# Altium footprint library WE-PMCI.PcbLib: 8 footprints
Each footprint in its own frame and in the unit in brackets; x right, y up, seen from the top. Pads: shape width x height; smd on the part's side, far side on the other; paste and mask are expansions set on the pad; w line width, h text height; cw(c..) or ccw(c..) is an arc to the next point about the centre after c.
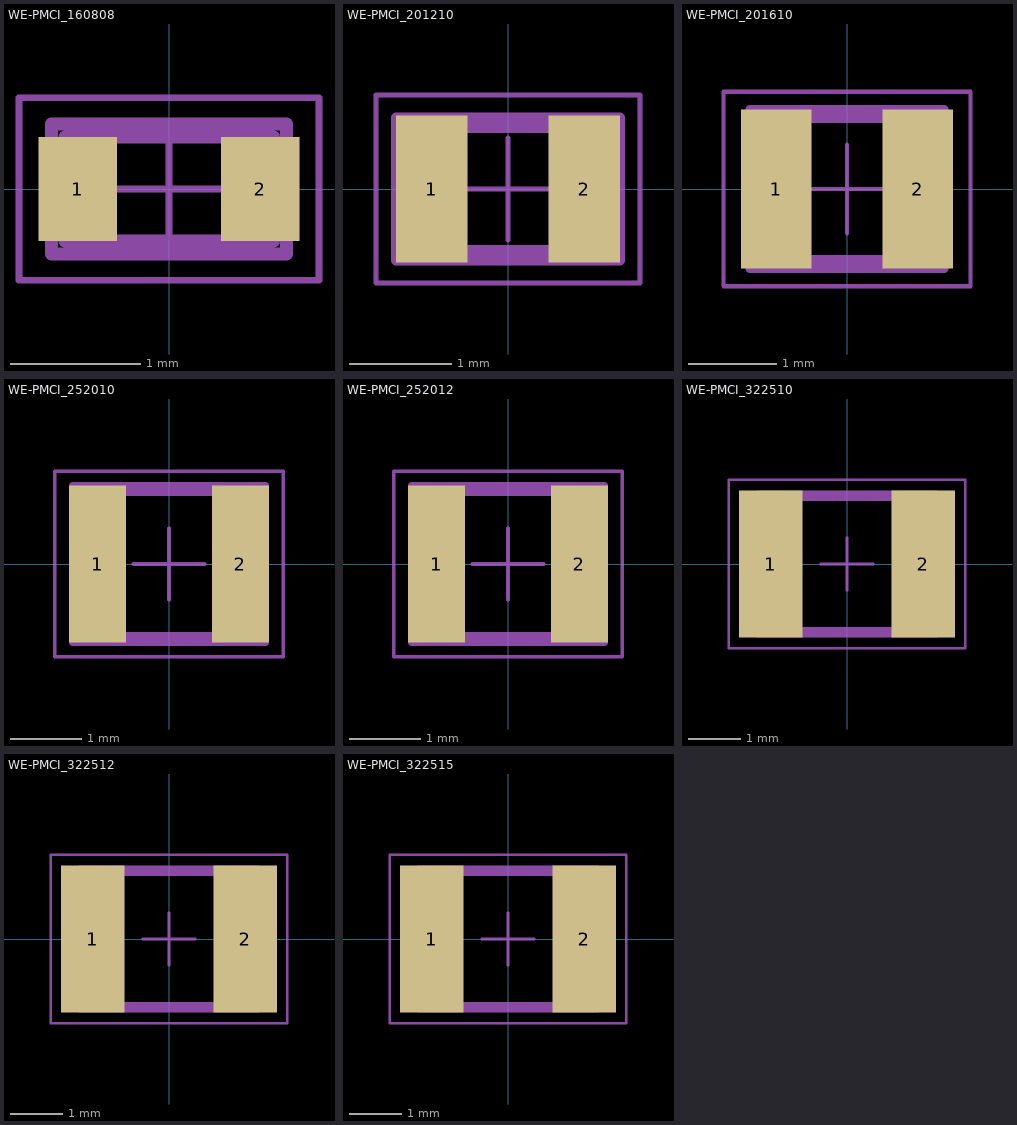
[diagram p0: the footprints below, top view; thin cyan lines are the x and y axes]

## WE-PMCI_160808 [mm] "Power Molded Chip Inductor, body 1.6x0.8mm"
height 0.8
pads (2):
  rect 0.6x0.8 smd: 1(-0.7,0) 2(0.7,0)
Top Assembly:
  lines w0.1: -0.9,-0.5 0.9,-0.5 0.9,0.5 -0.9,0.5 -0.9,-0.5
Top Designator:
  text ".Designator" at -3.647,-0.357 h1
Top 3D Body:
  lines w0.1: -0.797,-0.4 0.8,-0.4 0.8,0.4 -0.797,0.4 -0.797,-0.4
Top Courtyard:
  lines w0.05: -1.15,-0.7 1.15,-0.7 1.15,0.7 -1.15,0.7 -1.15,-0.7
Top Component Center:
  lines w0.05: -0.5,0 0.5,0 ; 0,-0.5 0,0.5
3D body "WE-PMCI_160808.stp": height 0.8, standoff 0, extent -0.797,-0.4 0.798,0.4

## WE-PMCI_201210 [mm] "Power Molded Chip Inductor, body 2x1.2mm"
height 1
pads (2):
  rect 0.7x1.45 smd: 1(-0.75,0) 2(0.75,0)
Top Assembly:
  lines w0.1: -1.1,-0.7 1.1,-0.7 1.1,0.7 -1.1,0.7 -1.1,-0.7
Top Designator:
  text ".Designator" at -3.647,-0.357 h1
Top 3D Body:
  lines w0.1: -1,-0.6 1,-0.6 1,0.6 -1,0.6 -1,-0.6
Top Courtyard:
  lines w0.05: -1.3,-0.925 1.3,-0.925 1.3,0.925 -1.3,0.925 -1.3,-0.925
Top Component Center:
  lines w0.05: -0.5,0 0.5,0 ; 0,-0.5 0,0.5
3D body "WE-PMCI_201210.stp": height 1, standoff 0, extent -0.997,-0.6 0.998,0.6

## WE-PMCI_201610 [mm] "Power Molded Chip Inductor, body 2x1.6mm"
height 1
pads (2):
  rect 0.8x1.8 smd: 1(-0.8,0) 2(0.8,0)
Top Assembly:
  lines w0.1: -1.1,-0.9 1.1,-0.9 1.1,0.9 -1.1,0.9 -1.1,-0.9
Top Designator:
  text ".Designator" at -3.647,-0.357 h1
Top 3D Body:
  lines w0.1: -1,-0.8 1,-0.8 1,0.8 -1,0.8 -1,-0.8
Top Courtyard:
  lines w0.05: -1.4,-1.1 1.4,-1.1 1.4,1.1 -1.4,1.1 -1.4,-1.1
Top Component Center:
  lines w0.05: -0.5,0 0.5,0 ; 0,-0.5 0,0.5
3D body "WE-PMCI_201610.stp": height 1, standoff 0, extent -0.997,-0.8 0.998,0.8

## WE-PMCI_252010 [mm] "Power Molded Chip Inductor, body 2.5x2mm"
height 1
pads (2):
  rect 0.8x2.2 smd: 1(-1,0) 2(1,0)
Top Assembly:
  lines w0.1: -1.35,-1.1 -1.35,1.1 1.35,1.1 1.35,-1.1 -1.35,-1.1
Top Designator:
  text ".Designator" at -3.647,-0.357 h1
Top 3D Body:
  lines w0.1: -1.25,-1 -1.25,1 1.25,1 1.25,-1 -1.25,-1
Top Courtyard:
  lines w0.05: -1.6,-1.3 -1.6,1.3 1.6,1.3 1.6,-1.3 -1.6,-1.3
Top Component Center:
  lines w0.05: -0.5,0 0.5,0 ; 0,-0.5 0,0.5
3D body "WE-PMCI_252010.stp": height 1, standoff 0, extent -1.247,-1 1.248,1

## WE-PMCI_252012 [mm] "Power Molded Chip Inductor, body 2.5x2mm"
height 1.2
pads (2):
  rect 0.8x2.2 smd: 1(-1,0) 2(1,0)
Top Assembly:
  lines w0.1: -1.35,-1.1 1.35,-1.1 1.35,1.1 -1.35,1.1 -1.35,-1.1
Top Designator:
  text ".Designator" at -3.647,-0.357 h1
Top 3D Body:
  lines w0.1: -1.25,-1 -1.25,1 1.25,1 1.25,-1 -1.25,-1
Top Courtyard:
  lines w0.05: -1.6,-1.3 1.6,-1.3 1.6,1.3 -1.6,1.3 -1.6,-1.3
Top Component Center:
  lines w0.05: -0.5,0 0.5,0 ; 0,-0.5 0,0.5
3D body "WE-PMCI_252012.stp": height 1.2, standoff 0, extent -1.247,-1 1.248,1

## WE-PMCI_322510 [mm] "Power Molded Chip Inductor, body 3.2x2.5mm"
height 1
pads (2):
  rect 1.2x2.8 smd: 1(-1.45,0) 2(1.45,0)
Top Assembly:
  lines w0.1: -1.7,-1.35 -1.7,1.35 1.7,1.35 1.7,-1.35 -1.7,-1.35
Top Designator:
  text ".Designator" at -3.647,-0.357 h1
Top 3D Body:
  lines w0.1: -1.6,-1.25 -1.6,1.25 1.6,1.25 1.6,-1.25 -1.6,-1.25
Top Courtyard:
  lines w0.05: -2.25,-1.6 2.25,-1.6 2.25,1.6 -2.25,1.6 -2.25,-1.6
Top Component Center:
  lines w0.05: -0.5,0 0.5,0 ; 0,-0.5 0,0.5
3D body "WE-PMCI_322510.stp": height 1, standoff 0, extent -1.597,-1.25 1.598,1.25

## WE-PMCI_322512 [mm] "Power Molded Chip Inductor, body 3.2x2.5mm"
height 1.2
pads (2):
  rect 1.2x2.8 smd: 1(-1.45,0) 2(1.45,0)
Top Assembly:
  lines w0.1: -1.7,-1.35 -1.7,1.35 1.7,1.35 1.7,-1.35 -1.7,-1.35
Top Designator:
  text ".Designator" at -3.647,-0.357 h1
Top 3D Body:
  lines w0.1: -1.6,-1.25 -1.6,1.25 1.6,1.25 1.6,-1.25 -1.6,-1.25
Top Courtyard:
  lines w0.05: -2.25,-1.6 2.25,-1.6 2.25,1.6 -2.25,1.6 -2.25,-1.6
Top Component Center:
  lines w0.05: -0.5,0 0.5,0 ; 0,-0.5 0,0.5
3D body "WE-PMCI_322512.stp": height 1.2, standoff 0, extent -1.597,-1.25 1.598,1.25

## WE-PMCI_322515 [mm] "Power Molded Chip Inductor, body 3.2x2.5mm"
height 1.5
pads (2):
  rect 1.2x2.8 smd: 1(-1.45,0) 2(1.45,0)
Top Assembly:
  lines w0.1: -1.7,-1.35 -1.7,1.35 1.7,1.35 1.7,-1.35 -1.7,-1.35
Top Designator:
  text ".Designator" at -3.647,-0.357 h1
Top 3D Body:
  lines w0.1: -1.6,-1.25 -1.6,1.25 1.6,1.25 1.6,-1.25 -1.6,-1.25
Top Courtyard:
  lines w0.05: -2.25,-1.6 2.25,-1.6 2.25,1.6 -2.25,1.6 -2.25,-1.6
Top Component Center:
  lines w0.05: -0.5,0 0.5,0 ; 0,-0.5 0,0.5
3D body "WE-PMCI_322515.stp": height 1.5, standoff 0, extent -1.597,-1.25 1.598,1.25